# EAGLE library part 6260XX220101_626010220101 (library WR-NPC2)
WR-NPC2 Male Header - Dual Row - THT 2.5mm pitch - Glow Wire Characteristics Properties Working Voltage: 250 V Operating temperature: -40°C up to +105°C Durability: 25 Mating cycles UL Approval: E323964 UL 94-V0 Glow Wire Approval: IEC 60335-1 Fully isolated & Protected Contacts Features Coding against Mismating Applications Industrial Home Appliances Telecommunication <https://www.we-online.com/components/media/o786372v209%20Family-WR-NPC2-6260xx220101.jpg> Details see: www.we-online.com/components/products/WR_NPC2_MALE_HEADER_DUAL_ROW_THT <www.we-online.com/catalog/WR_NPC2_MALE_HEADER_DUAL_ROW_THT/?utm_source=eagle_model&utm_medium=description_link&utm_campaign=eisos_eagle> Created by Ella Wu 2024-11-06 2024 (C) Wurth Elektronik
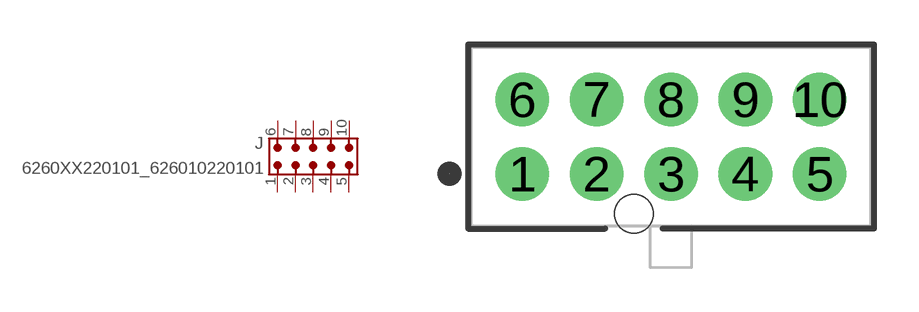
[diagram p5: symbol with the pads of 626010220101; footprint 626010220101]

Designator prefix J

## 6260XX220101_626010220101 (CONTACT-RESISTANCE: 10mOhm; DATASHEET-URL: https://www.we-online.com/redexpert/spec/626010220101?ae; GENDER: Male; IR: 6.5A; MOUNT: THT; PACKAGING: Tray; PART-NUMBER: 626010220101; PITCH: 2.5mm; POLARITY: 10; ROWS: Dual Row; TYPE: Vertical; VALUE: 626010220101; WORKING-VOLTAGE: 250V (AC))  [626010220101]
1  1  pas
2  2  pas
3  3  pas
4  4  pas
5  5  pas
6  6  pas
7  7  pas
8  8  pas
9  9  pas
10  10  pas

## Footprint 626010220101 (pad centres in mm)
THT Dual Row Male Header Vertical Classic with Poka-Yoke THT, 10pins
drill 1.2: 1 -5,-1.25; 2 -2.5,-1.25; 3 0,-1.25; 4 2.5,-1.25; 5 5,-1.25; 6 -5,1.25; 7 -2.5,1.25; 8 0,1.25; 9 2.5,1.25; 10 5,1.25
hole 1.3 at -1.25,-2.59